# Altium footprint library Type-C+3.1母头90度四脚端子SM+DIP.PcbLib: 1 footprints
Each footprint in its own frame and in the unit in brackets; x right, y up, seen from the top. Pads: shape width x height; smd on the part's side, far side on the other; paste and mask are expansions set on the pad; w line width, h text height; cw(c..) or ccw(c..) is an arc to the next point about the centre after c.
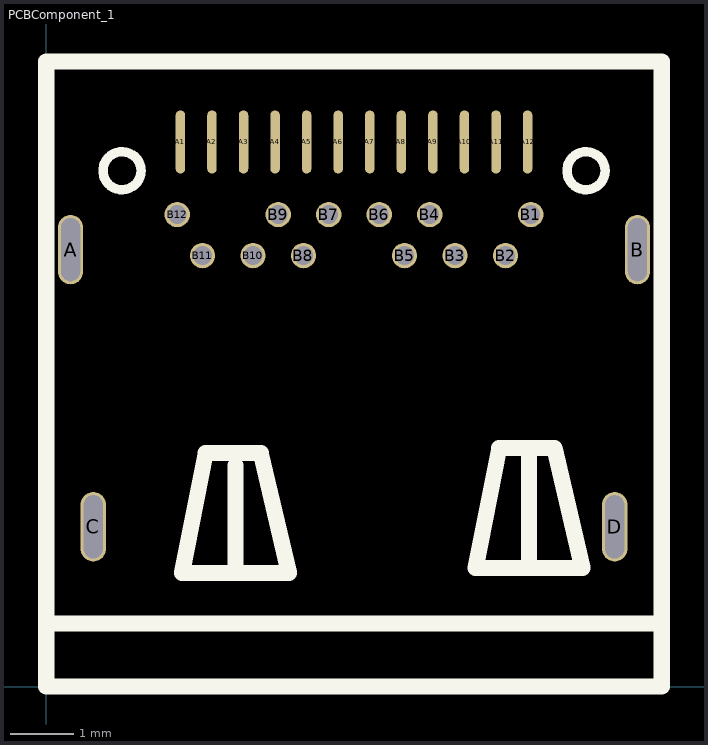
[diagram p0: the footprint, top view; thin cyan lines are the x and y axes]

## PCBComponent_1 [mm]
pads (28):
  oval 0.4x1.1 hole 0.3 slot 1 at 90 deg: A(0.385,6.92) B(9.365,6.92) C(0.745,2.53) D(9.005,2.53)
  oval 0.15x1 smd: A1(2.125,8.625) A2(2.625,8.625) A3(3.125,8.625) A4(3.625,8.625) A5(4.125,8.625) A6(4.625,8.625) A7(5.125,8.625) A8(5.625,8.625) A9(6.125,8.625) A10(6.625,8.625) A11(7.125,8.625) A12(7.625,8.625)
  round 0.4 hole 0.3: B1(7.675,7.475) B2(7.275,6.825) B3(6.475,6.825) B4(6.075,7.475) B5(5.675,6.825) B6(5.275,7.475) B7(4.475,7.475) B8(4.075,6.825) B9(3.675,7.475) B10(3.275,6.825) B11(2.475,6.825) B12(2.075,7.475)
Top Overlay:
  circle w0.15: c8.55,8.17 r0.301
  circle w0.15: c1.2,8.17 r0.301
  lines w0.254: 0,0.3 0,0 ; 0,1 9.75,1 ; 0,9.87 0,0 ; 0,9.9 9.75,9.9 ; 0.7,1 8.75,1 ; 3,1.8 3,3.5 ; 7.65,1.876 7.65,3.776 ; 9.75,9.87 9.75,0 0,0 ; 2.15,1.8 3.845,1.8 3.4,3.7 2.525,3.7 2.15,1.8 ; 6.8,1.876 7.175,3.776 8.05,3.776 8.495,1.876 6.8,1.876
3D body: height 2.5, standoff 2, extent 2.137,1.85 3.812,3.7
3D body: height 2.5, standoff 2, extent 6.8,1.875 8.475,3.725
3D body: height 0.1, standoff -1, extent 8.88,2.03 9.13,3.03
3D body: height 0.1, standoff -1, extent 0.62,2.03 0.87,3.03
3D body: height 0.1, standoff -1, extent 9.24,6.42 9.49,7.42
3D body: height 0.1, standoff -1, extent 0.26,6.42 0.51,7.42
3D body: height 0.1, standoff 0, extent 7.5,8.125 7.75,9.125
3D body: height 0.1, standoff 0, extent 6.975,8.1 7.225,9.1
3D body: height 0.1, standoff 0, extent 6.5,8.125 6.75,9.125
3D body: height 0.1, standoff 0, extent 5.975,8.125 6.225,9.125
3D body: height 0.1, standoff 0, extent 5.5,8.125 5.75,9.125
3D body: height 0.1, standoff 0, extent 5,8.125 5.25,9.125
3D body: height 0.1, standoff 0, extent 4.5,8.125 4.75,9.125
3D body: height 0.1, standoff 0, extent 4,8.125 4.25,9.125
3D body: height 0.1, standoff 0, extent 3.5,8.125 3.75,9.125
3D body: height 0.1, standoff 0, extent 3,8.125 3.25,9.125
3D body: height 0.1, standoff 0, extent 2.5,8.125 2.75,9.125
3D body: height 0, standoff -1, extent 2.326,6.675 2.625,6.975
3D body: height 0, standoff -1, extent 3.126,6.675 3.425,6.975
3D body: height 0, standoff -1, extent 3.926,6.675 4.225,6.975
3D body: height 0, standoff -1, extent 5.526,6.675 5.825,6.975
3D body: height 0, standoff -1, extent 6.326,6.675 6.625,6.975
3D body: height 0, standoff -1, extent 7.126,6.675 7.425,6.975
3D body: height 0, standoff -1, extent 7.526,7.325 7.825,7.625
3D body: height 0, standoff -1, extent 5.926,7.325 6.225,7.625
3D body: height 0, standoff -1, extent 5.126,7.325 5.425,7.625
3D body: height 0, standoff -1, extent 4.326,7.325 4.625,7.625
3D body: height 0, standoff -1, extent 3.526,7.325 3.825,7.625
3D body: height 0, standoff -1, extent 1.926,7.325 2.225,7.625
3D body: height 0.1, standoff 0, extent 2,8.125 2.25,9.125
3D body: height 2, standoff 0.1, extent 8.7,-0.275 9.975,10.125
3D body: height 2, standoff 0.1, extent -0.275,-0.25 1,10.15
3D body: height 2.53, standoff 1.27, extent 8.725,-0.275 9.98,10.125
3D body: height 2.58, standoff 1.32, extent -0.25,-0.275 1.005,10.125
3D body: height 2.5, standoff 2, extent 0.377,-0.275 9.352,10.125